# Altium integrated library ON Semi Schottky Diodes & Schottky Rectifiers.IntLib: 755 symbols (part 12 of 17)
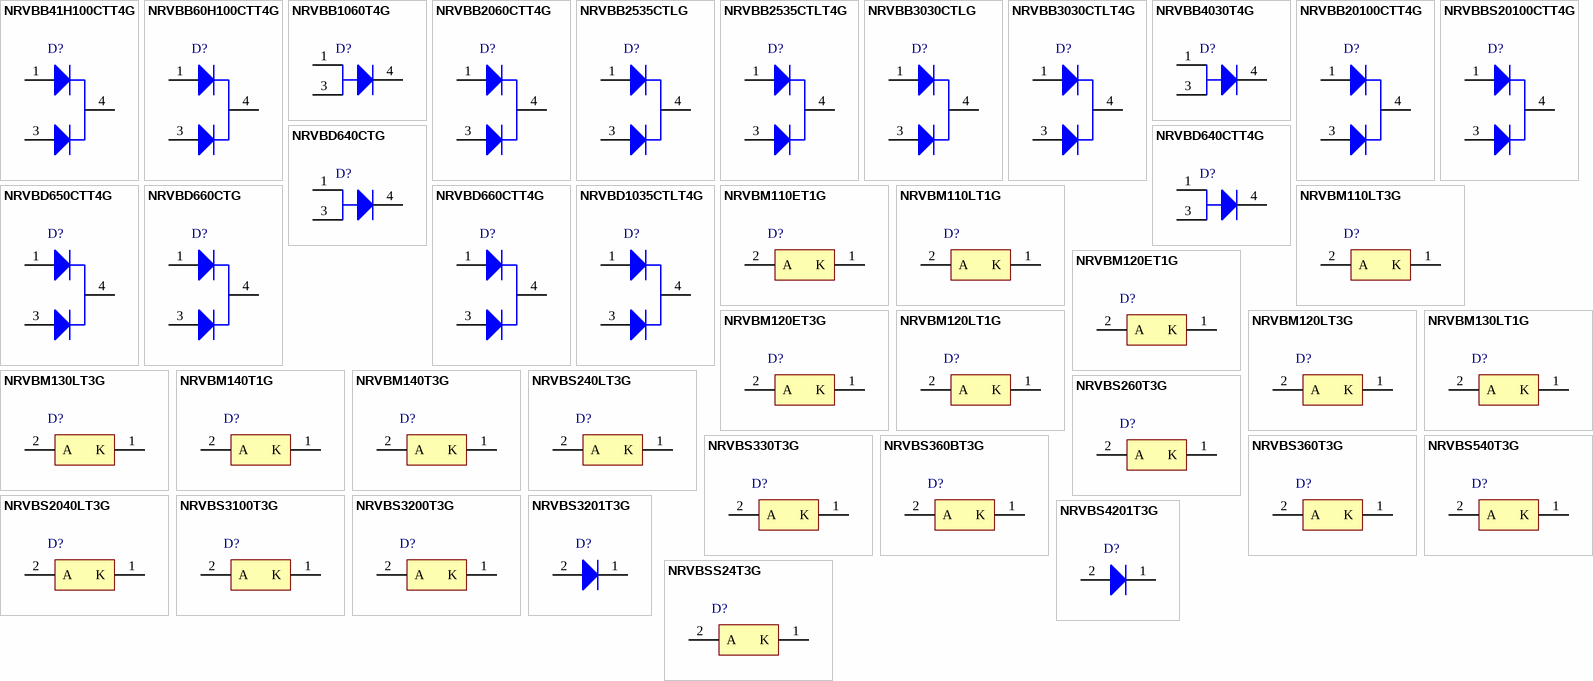
[diagram p30: symbols NRVBB41H100CTT4G to NRVBSS24T3G]

## NRVBB3030CTLG
designator D?
SWITCHMODE(TM) Power Rectifier, 3-Pin D2PAK, Pb-Free, Tube; Manufacturer: On Semiconductor; PartNumber: NRVBB3030CTLG; Configuration: Common Cathode; IFSM Max (A): 300; DatasheetVersion: Rev. 7; PackageVersion: Rev. K, 09/2008; PackageReference: D2PAK-3-418B-04; PackageDescription: 3-Pin Flange Mount, Body 9.145 x 9.97 mm, Pitch 2.54 mm; Supplier 1: Mouser; Supplier Part Number 1: N/A; Packing: Tube; RoHS: TRUE; Mounting Technology: Surface Mount; ComponentLink1Description: Manufacturer URL; ComponentLink1URL: http://www.onsemi.com/; ComponentLink2Description: Datasheet; ComponentLink2URL: http://www.onsemi.cn/pub_link/Collateral/MBRB3030CTL-D.PDF; ComponentLink3Description: Package Specification; ComponentLink3URL: http://www.onsemi.com/pub_link/Collateral/418B-04.PDF
footprint ONSC-D2PAK-3-418B-04_V (DPAK, 3-Leads, Body 9.97x9.145mm, Pitch 2.54mm)
pins: 1 A1, 3 A2, 4 K

## NRVBB3030CTLT4G
designator D?
SWITCHMODE(TM) Power Rectifier, 3-Pin D2PAK, Pb-Free, Tape and Reel; Manufacturer: On Semiconductor; PartNumber: NRVBB3030CTLT4G; Configuration: Common Cathode; IFSM Max (A): 300; DatasheetVersion: Rev. 7; PackageVersion: Rev. K, 09/2008; PackageReference: D2PAK-3-418B-04; PackageDescription: 3-Pin Flange Mount, Body 9.145 x 9.97 mm, Pitch 2.54 mm; Supplier 1: Mouser; Supplier Part Number 1: N/A; Packing: Tape and Reel; RoHS: TRUE; Mounting Technology: Surface Mount; ComponentLink1Description: Manufacturer URL; ComponentLink1URL: http://www.onsemi.com/; ComponentLink2Description: Datasheet; ComponentLink2URL: http://www.onsemi.cn/pub_link/Collateral/MBRB3030CTL-D.PDF; ComponentLink3Description: Package Specification; ComponentLink3URL: http://www.onsemi.com/pub_link/Collateral/418B-04.PDF
footprint ONSC-D2PAK-3-418B-04_V (DPAK, 3-Leads, Body 9.97x9.145mm, Pitch 2.54mm)
pins: 1 A1, 3 A2, 4 K

## NRVBB4030T4G
designator D?
SWITCHMODE(TM) Power Rectifier, 3-Pin D2PAK, Pb-Free, Tape and Reel; Manufacturer: On Semiconductor; PartNumber: NRVBB4030T4G; Configuration: Single; IFSM Max (A): 300; DatasheetVersion: Rev. 7; PackageVersion: Rev. K, 09/2008; PackageReference: D2PAK-3-418B-04; PackageDescription: 3-Pin Flange Mount, Body 9.145 x 9.97 mm, Pitch 2.54 mm; Supplier 1: Digi-Key; Supplier Part Number 1: NRVBB4030T4G-ND; Supplier 2: Mouser; Supplier Part Number 2: 863-NRVBB4030T4G; Packing: Tape and Reel; RoHS: TRUE; Mounting Technology: Surface Mount; ComponentLink1Description: Manufacturer URL; ComponentLink1URL: http://www.onsemi.com/; ComponentLink2Description: Datasheet; ComponentLink2URL: http://www.onsemi.cn/pub_link/Collateral/MBRB4030-D.PDF; ComponentLink3Description: Package Specification; ComponentLink3URL: http://www.onsemi.com/pub_link/Collateral/418B-04.PDF
footprint ONSC-D2PAK-3-418B-04_V (DPAK, 3-Leads, Body 9.97x9.145mm, Pitch 2.54mm)
pins: 1 A, 3 A, 4 K

## NRVBB20100CTT4G
designator D?
SWITCHMODE(TM) Power Rectifier, 3-Pin D2PAK, Pb-Free, Tape and Reel; Manufacturer: On Semiconductor; PartNumber: NRVBB20100CTT4G; Configuration: Common Cathode; IFSM Max (A): 150; DatasheetVersion: Rev. 10; PackageVersion: Rev. K, 09/2008; PackageReference: D2PAK-3-418B-04; PackageDescription: 3-Pin Flange Mount, Body 9.145 x 9.97 mm, Pitch 2.54 mm; Supplier 1: Digi-Key; Supplier Part Number 1: NRVBB20100CTT4G-ND; Supplier 2: Newark; Supplier Part Number 2: 76T6649; Supplier 3: Mouser; Supplier Part Number 3: 863-NRVBB20100CTT4G; Packing: Tape and Reel; RoHS: TRUE; Mounting Technology: Surface Mount; ComponentLink1Description: Manufacturer URL; ComponentLink1URL: http://www.onsemi.com/; ComponentLink2Description: Datasheet; ComponentLink2URL: http://www.onsemi.cn/pub_link/Collateral/MBRB20100CT-D.PDF; ComponentLink3Description: Package Specification; ComponentLink3URL: http://www.onsemi.com/pub_link/Collateral/418B-04.PDF
footprint ONSC-D2PAK-3-418B-04_V (DPAK, 3-Leads, Body 9.97x9.145mm, Pitch 2.54mm)
pins: 1 A1, 3 A2, 4 K

## NRVBBS20100CTT4G
designator D?
SWITCHMODE(TM) Power Rectifier, 3-Pin D2PAK, Pb-Free, Tape and Reel; Manufacturer: On Semiconductor; PartNumber: NRVBBS20100CTT4G; Configuration: Common Cathode; IFSM Max (A): 150; DatasheetVersion: Rev. 10; PackageVersion: Rev. K, 09/2008; PackageReference: D2PAK-3-418B-04; PackageDescription: 3-Pin Flange Mount, Body 9.145 x 9.97 mm, Pitch 2.54 mm; Supplier 1: Digi-Key; Supplier Part Number 1: NRVBBS20100CTT4G-ND; Supplier 2: Mouser; Supplier Part Number 2: 863-NRVBBS20100CTT4G; Packing: Tape and Reel; RoHS: TRUE; Mounting Technology: Surface Mount; ComponentLink1Description: Manufacturer URL; ComponentLink1URL: http://www.onsemi.com/; ComponentLink2Description: Datasheet; ComponentLink2URL: http://www.onsemi.cn/pub_link/Collateral/MBRB20100CT-D.PDF; ComponentLink3Description: Package Specification; ComponentLink3URL: http://www.onsemi.com/pub_link/Collateral/418B-04.PDF
footprint ONSC-D2PAK-3-418B-04_V (DPAK, 3-Leads, Body 9.97x9.145mm, Pitch 2.54mm)
pins: 1 A1, 3 A2, 4 K

## NRVBD640CTG
designator D?
SWITCHMODE(TM) Power Rectifier, 3-Pin DPAK, Pb-Free, Tube; Manufacturer: On Semiconductor; PartNumber: NRVBD640CTG; Configuration: Common Cathode; IFSM Max (A): 75; DatasheetVersion: Rev. 10; PackageVersion: Rev. E, 02/2014; PackageReference: DPAK-3-369C-01; PackageDescription: 3-Pin Flange Mount, Body 6.54 x 6.095 mm, Pitch 2.29 mm; Supplier 1: Digi-Key; Supplier Part Number 1: NRVBD640CTG-ND; Supplier 2: Newark; Supplier Part Number 2: 76T6655; Supplier 3: Mouser; Supplier Part Number 3: 863-NRVBD640CTG; Packing: Tube; RoHS: TRUE; Mounting Technology: Surface Mount; ComponentLink1Description: Manufacturer URL; ComponentLink1URL: http://www.onsemi.com/; ComponentLink2Description: Datasheet; ComponentLink2URL: http://www.onsemi.cn/pub_link/Collateral/MBRD620CT-D.PDF; ComponentLink3Description: Package Specification; ComponentLink3URL: http://www.onsemi.cn/pub_link/Collateral/369C.PDF
footprint ONSC-DPAK-3-369C-01_V (DPAK, 3-Leads, Body 6.54x6.095mm, Pitch 2.29mm)
pins: 1 A, 3 A, 4 K

## NRVBD640CTT4G
designator D?
SWITCHMODE(TM) Power Rectifier, 3-Pin DPAK, Pb-Free, Tape and Reel; Manufacturer: On Semiconductor; PartNumber: NRVBD640CTT4G; Configuration: Common Cathode; IFSM Max (A): 75; DatasheetVersion: Rev. 10; PackageVersion: Rev. E, 02/2014; PackageReference: DPAK-3-369C-01; PackageDescription: 3-Pin Flange Mount, Body 6.54 x 6.095 mm, Pitch 2.29 mm; Supplier 1: Digi-Key; Supplier Part Number 1: NRVBD640CTT4G-ND; Supplier 2: Mouser; Supplier Part Number 2: 863-NRVBD640CTT4G; Packing: Tape and Reel; RoHS: TRUE; Mounting Technology: Surface Mount; ComponentLink1Description: Manufacturer URL; ComponentLink1URL: http://www.onsemi.com/; ComponentLink2Description: Datasheet; ComponentLink2URL: http://www.onsemi.cn/pub_link/Collateral/MBRD620CT-D.PDF; ComponentLink3Description: Package Specification; ComponentLink3URL: http://www.onsemi.cn/pub_link/Collateral/369C.PDF
footprint ONSC-DPAK-3-369C-01_V (DPAK, 3-Leads, Body 6.54x6.095mm, Pitch 2.29mm)
pins: 1 A, 3 A, 4 K

## NRVBD650CTT4G
designator D?
SWITCHMODE(TM) Power Rectifier, 3-Pin DPAK, Pb-Free, Tape and Reel; Manufacturer: On Semiconductor; PartNumber: NRVBD650CTT4G; Configuration: Common Cathode; IFSM Max (A): 75; DatasheetVersion: Rev. 10; PackageVersion: Rev. E, 02/2014; PackageReference: DPAK-3-369C-01; PackageDescription: 3-Pin Flange Mount, Body 6.54 x 6.095 mm, Pitch 2.29 mm; Supplier 1: Digi-Key; Supplier Part Number 1: NRVBD650CTT4G-ND; Supplier 2: Newark; Supplier Part Number 2: 76T6657; Supplier 3: Mouser; Supplier Part Number 3: 863-NRVBD650CTT4G; Packing: Tape and Reel; RoHS: TRUE; Mounting Technology: Surface Mount; ComponentLink1Description: Manufacturer URL; ComponentLink1URL: http://www.onsemi.com/; ComponentLink2Description: Datasheet; ComponentLink2URL: http://www.onsemi.cn/pub_link/Collateral/MBRD620CT-D.PDF; ComponentLink3Description: Package Specification; ComponentLink3URL: http://www.onsemi.cn/pub_link/Collateral/369C.PDF
footprint ONSC-DPAK-3-369C-01_V (DPAK, 3-Leads, Body 6.54x6.095mm, Pitch 2.29mm)
pins: 1 A1, 3 A2, 4 K

## NRVBD660CTG
designator D?
SWITCHMODE(TM) Power Rectifier, 3-Pin DPAK, Pb-Free, Tube; Manufacturer: On Semiconductor; PartNumber: NRVBD660CTG; Configuration: Common Cathode; IFSM Max (A): 75; DatasheetVersion: Rev. 10; PackageVersion: Rev. E, 02/2014; PackageReference: DPAK-3-369C-01; PackageDescription: 3-Pin Flange Mount, Body 6.54 x 6.095 mm, Pitch 2.29 mm; Supplier 1: Digi-Key; Supplier Part Number 1: NRVBD660CTG-ND; Supplier 2: Newark; Supplier Part Number 2: 76T6658; Supplier 3: Mouser; Supplier Part Number 3: 863-NRVBD660CTG; Packing: Tube; RoHS: TRUE; Mounting Technology: Surface Mount; ComponentLink1Description: Manufacturer URL; ComponentLink1URL: http://www.onsemi.com/; ComponentLink2Description: Datasheet; ComponentLink2URL: http://www.onsemi.cn/pub_link/Collateral/MBRD620CT-D.PDF; ComponentLink3Description: Package Specification; ComponentLink3URL: http://www.onsemi.cn/pub_link/Collateral/369C.PDF
footprint ONSC-DPAK-3-369C-01_V (DPAK, 3-Leads, Body 6.54x6.095mm, Pitch 2.29mm)
pins: 1 A1, 3 A2, 4 K

## NRVBD660CTT4G
designator D?
SWITCHMODE(TM) Power Rectifier, 3-Pin DPAK, Pb-Free, Tape and Reel; Manufacturer: On Semiconductor; PartNumber: NRVBD660CTT4G; Configuration: Common Cathode; IFSM Max (A): 75; DatasheetVersion: Rev. 10; PackageVersion: Rev. E, 02/2014; PackageReference: DPAK-3-369C-01; PackageDescription: 3-Pin Flange Mount, Body 6.54 x 6.095 mm, Pitch 2.29 mm; Supplier 1: Digi-Key; Supplier Part Number 1: NRVBD660CTT4G-ND; Supplier 2: Newark; Supplier Part Number 2: 76T6659; Supplier 3: Mouser; Supplier Part Number 3: 863-NRVBD660CTT4G; Packing: Tape and Reel; RoHS: TRUE; Mounting Technology: Surface Mount; ComponentLink1Description: Manufacturer URL; ComponentLink1URL: http://www.onsemi.com/; ComponentLink2Description: Datasheet; ComponentLink2URL: http://www.onsemi.cn/pub_link/Collateral/MBRD620CT-D.PDF; ComponentLink3Description: Package Specification; ComponentLink3URL: http://www.onsemi.cn/pub_link/Collateral/369C.PDF
footprint ONSC-DPAK-3-369C-01_V (DPAK, 3-Leads, Body 6.54x6.095mm, Pitch 2.29mm)
pins: 1 A1, 3 A2, 4 K

## NRVBD1035CTLT4G
designator D?
SWITCHMODE(TM) Schottky Power Rectifier, 3-Pin DPAK, Pb-Free, Tape and Reel; Manufacturer: On Semiconductor; PartNumber: NRVBD1035CTLT4G; Configuration: Common Cathode; IFSM Max (A): 50; DatasheetVersion: Rev. 0; PackageVersion: Rev. E, 02/2014; PackageReference: DPAK-3-369C-01; PackageDescription: 3-Pin Flange Mount, Body 6.54 x 6.095 mm, Pitch 2.29 mm; Supplier 1: Digi-Key; Supplier Part Number 1: NRVBD1035CTLT4G-ND; Supplier 2: Mouser; Supplier Part Number 2: 863-NRVBD1035CTLT4G; Packing: Tape and Reel; RoHS: TRUE; Mounting Technology: Surface Mount; ComponentLink1Description: Manufacturer URL; ComponentLink1URL: http://www.onsemi.com/; ComponentLink2Description: Datasheet; ComponentLink2URL: http://www.onsemi.cn/pub_link/Collateral/NRVBD1035CTL-D.PDF; ComponentLink3Description: Package Specification; ComponentLink3URL: http://www.onsemi.cn/pub_link/Collateral/369C.PDF
footprint ONSC-DPAK-3-369C-01_V (DPAK, 3-Leads, Body 6.54x6.095mm, Pitch 2.29mm)
pins: 1 A1, 3 A2, 4 K

## NRVBM110ET1G
designator D?
Schottky Power Rectifier, 2-Pin Powermite, Pb-Free, Tape and Reel; Manufacturer: On Semiconductor; PartNumber: NRVBM110ET1G; Configuration: Single; IFSM Max (A): 50; DatasheetVersion: Rev. 3; PackageVersion: Rev. F, 05/2013; PackageReference: POWERMITE-2-457-04; PackageDescription: 2-Pin POWERMITE, Body 1.965 x 1.9 mm; Supplier 1: Newark; Supplier Part Number 1: 72W2301; Supplier 2: Mouser; Supplier Part Number 2: 863-NRVBM110ET1G; Packing: Tape and Reel; RoHS: TRUE; Mounting Technology: Surface Mount; ComponentLink1Description: Manufacturer URL; ComponentLink1URL: http://www.onsemi.com/; ComponentLink2Description: Datasheet; ComponentLink2URL: http://www.onsemi.cn/pub_link/Collateral/MBRM110E-D.PDF; ComponentLink3Description: Package Specification; ComponentLink3URL: http://www.onsemi.com/pub_link/Collateral/457-04.PDF
footprint ONSC-POWERMITE-2-457-04_D_V (POWERMITE, 2-Leads, Body 1.965x1.9mm)
pins: 1 K, 2 A

## NRVBM110LT1G
designator D?
Schottky Power Rectifier, 2-Pin Powermite, Pb-Free, Tape and Reel; Manufacturer: On Semiconductor; PartNumber: NRVBM110LT1G; Configuration: Single; IFSM Max (A): 50; DatasheetVersion: Rev. 2; PackageVersion: Rev. F, 05/2013; PackageReference: POWERMITE-2-457-04; PackageDescription: 2-Pin POWERMITE, Body 1.965 x 1.9 mm; Supplier 1: Newark; Supplier Part Number 1: 97W6347; Supplier 2: Mouser; Supplier Part Number 2: 863-NRVBM110LT1G; Packing: Tape and Reel; RoHS: TRUE; Mounting Technology: Surface Mount; ComponentLink1Description: Manufacturer URL; ComponentLink1URL: http://www.onsemi.com/; ComponentLink2Description: Datasheet; ComponentLink2URL: http://www.onsemi.cn/pub_link/Collateral/MBRM110L-D.PDF; ComponentLink3Description: Package Specification; ComponentLink3URL: http://www.onsemi.com/pub_link/Collateral/457-04.PDF
footprint ONSC-POWERMITE-2-457-04_D_V (POWERMITE, 2-Leads, Body 1.965x1.9mm)
pins: 1 K, 2 A

## NRVBM110LT3G
designator D?
Schottky Power Rectifier, 2-Pin Powermite, Pb-Free, Tape and Reel; Manufacturer: On Semiconductor; PartNumber: NRVBM110LT3G; Configuration: Single; IFSM Max (A): 50; DatasheetVersion: Rev. 2; PackageVersion: Rev. F, 05/2013; PackageReference: POWERMITE-2-457-04; PackageDescription: 2-Pin POWERMITE, Body 1.965 x 1.9 mm; Supplier 1: Newark; Supplier Part Number 1: 97W6348; Supplier 2: Mouser; Supplier Part Number 2: 863-NRVBM110LT3G; Packing: Tape and Reel; RoHS: TRUE; Mounting Technology: Surface Mount; ComponentLink1Description: Manufacturer URL; ComponentLink1URL: http://www.onsemi.com/; ComponentLink2Description: Datasheet; ComponentLink2URL: http://www.onsemi.cn/pub_link/Collateral/MBRM110L-D.PDF; ComponentLink3Description: Package Specification; ComponentLink3URL: http://www.onsemi.com/pub_link/Collateral/457-04.PDF
footprint ONSC-POWERMITE-2-457-04_D_V (POWERMITE, 2-Leads, Body 1.965x1.9mm)
pins: 1 K, 2 A

## NRVBM120ET1G
designator D?
Schottky Power Rectifier, 2-Pin Powermite, Pb-Free, Tape and Reel; Manufacturer: On Semiconductor; PartNumber: NRVBM120ET1G; Configuration: Single; IFSM Max (A): 50; DatasheetVersion: Rev. 3; PackageVersion: Rev. F, 05/2013; PackageReference: POWERMITE-2-457-04; PackageDescription: 2-Pin POWERMITE, Body 1.965 x 1.9 mm; Supplier 1: Mouser; Supplier Part Number 1: 863-NRVBM120ET1G; Packing: Tape and Reel; RoHS: TRUE; Mounting Technology: Surface Mount; ComponentLink1Description: Manufacturer URL; ComponentLink1URL: http://www.onsemi.com/; ComponentLink2Description: Datasheet; ComponentLink2URL: http://www.onsemi.cn/pub_link/Collateral/MBRM120E-D.PDF; ComponentLink3Description: Package Specification; ComponentLink3URL: http://www.onsemi.com/pub_link/Collateral/457-04.PDF
footprint ONSC-POWERMITE-2-457-04_D_V (POWERMITE, 2-Leads, Body 1.965x1.9mm)
pins: 1 K, 2 A

## NRVBM120ET3G
designator D?
Schottky Power Rectifier, 2-Pin Powermite, Pb-Free, Tape and Reel; Manufacturer: On Semiconductor; PartNumber: NRVBM120ET3G; Configuration: Single; IFSM Max (A): 50; DatasheetVersion: Rev. 3; PackageVersion: Rev. F, 05/2013; PackageReference: POWERMITE-2-457-04; PackageDescription: 2-Pin POWERMITE, Body 1.965 x 1.9 mm; Supplier 1: Mouser; Supplier Part Number 1: 863-NRVBM120ET3G; Packing: Tape and Reel; RoHS: TRUE; Mounting Technology: Surface Mount; ComponentLink1Description: Manufacturer URL; ComponentLink1URL: http://www.onsemi.com/; ComponentLink2Description: Datasheet; ComponentLink2URL: http://www.onsemi.cn/pub_link/Collateral/MBRM120E-D.PDF; ComponentLink3Description: Package Specification; ComponentLink3URL: http://www.onsemi.com/pub_link/Collateral/457-04.PDF
footprint ONSC-POWERMITE-2-457-04_D_V (POWERMITE, 2-Leads, Body 1.965x1.9mm)
pins: 1 K, 2 A

## NRVBM120LT1G
designator D?
Schottky Power Rectifier, 2-Pin Powermite, Pb-Free, Tape and Reel; Manufacturer: On Semiconductor; PartNumber: NRVBM120LT1G; Configuration: Single; IFSM Max (A): 50; DatasheetVersion: Rev. 7; PackageVersion: Rev. F, 05/2013; PackageReference: POWERMITE-2-457-04; PackageDescription: 2-Pin POWERMITE, Body 1.965 x 1.9 mm; Supplier 1: Mouser; Supplier Part Number 1: 863-NRVBM120LT1G; Packing: Tape and Reel; RoHS: TRUE; Mounting Technology: Surface Mount; ComponentLink1Description: Manufacturer URL; ComponentLink1URL: http://www.onsemi.com/; ComponentLink2Description: Datasheet; ComponentLink2URL: http://www.onsemi.cn/pub_link/Collateral/MBRM120L-D.PDF; ComponentLink3Description: Package Specification; ComponentLink3URL: http://www.onsemi.com/pub_link/Collateral/457-04.PDF
footprint ONSC-POWERMITE-2-457-04_D_V (POWERMITE, 2-Leads, Body 1.965x1.9mm)
pins: 1 K, 2 A

## NRVBM120LT3G
designator D?
Schottky Power Rectifier, 2-Pin Powermite, Pb-Free, Tape and Reel; Manufacturer: On Semiconductor; PartNumber: NRVBM120LT3G; Configuration: Single; IFSM Max (A): 50; DatasheetVersion: Rev. 7; PackageVersion: Rev. F, 05/2013; PackageReference: POWERMITE-2-457-04; PackageDescription: 2-Pin POWERMITE, Body 1.965 x 1.9 mm; Supplier 1: Newark; Supplier Part Number 1: 97W6350; Supplier 2: Mouser; Supplier Part Number 2: 863-NRVBM120LT3G; Packing: Tape and Reel; RoHS: TRUE; Mounting Technology: Surface Mount; ComponentLink1Description: Manufacturer URL; ComponentLink1URL: http://www.onsemi.com/; ComponentLink2Description: Datasheet; ComponentLink2URL: http://www.onsemi.cn/pub_link/Collateral/MBRM120L-D.PDF; ComponentLink3Description: Package Specification; ComponentLink3URL: http://www.onsemi.com/pub_link/Collateral/457-04.PDF
footprint ONSC-POWERMITE-2-457-04_D_V (POWERMITE, 2-Leads, Body 1.965x1.9mm)
pins: 1 K, 2 A

## NRVBM130LT1G
designator D?
Schottky Power Rectifier, 2-Pin Powermite, Pb-Free, Tape and Reel; Manufacturer: On Semiconductor; PartNumber: NRVBM130LT1G; Configuration: Single; IFSM Max (A): 50; DatasheetVersion: Rev. 5; PackageVersion: Rev. F, 05/2013; PackageReference: POWERMITE-2-457-04; PackageDescription: 2-Pin POWERMITE, Body 1.965 x 1.9 mm; Supplier 1: Newark; Supplier Part Number 1: 97W6351; Supplier 2: Mouser; Supplier Part Number 2: 863-NRVBM130LT1G; Packing: Tape and Reel; RoHS: TRUE; Mounting Technology: Surface Mount; ComponentLink1Description: Manufacturer URL; ComponentLink1URL: http://www.onsemi.com/; ComponentLink2Description: Datasheet; ComponentLink2URL: http://www.onsemi.cn/pub_link/Collateral/MBRM130L-D.PDF; ComponentLink3Description: Package Specification; ComponentLink3URL: http://www.onsemi.com/pub_link/Collateral/457-04.PDF
footprint ONSC-POWERMITE-2-457-04_D_V (POWERMITE, 2-Leads, Body 1.965x1.9mm)
pins: 1 K, 2 A

## NRVBM130LT3G
designator D?
Schottky Power Rectifier, 2-Pin Powermite, Pb-Free, Tape and Reel; Manufacturer: On Semiconductor; PartNumber: NRVBM130LT3G; Configuration: Single; IFSM Max (A): 50; DatasheetVersion: Rev. 5; PackageVersion: Rev. F, 05/2013; PackageReference: POWERMITE-2-457-04; PackageDescription: 2-Pin POWERMITE, Body 1.965 x 1.9 mm; Supplier 1: Newark; Supplier Part Number 1: 97W6352; Supplier 2: Mouser; Supplier Part Number 2: 863-NRVBM130LT3G; Packing: Tape and Reel; RoHS: TRUE; Mounting Technology: Surface Mount; ComponentLink1Description: Manufacturer URL; ComponentLink1URL: http://www.onsemi.com/; ComponentLink2Description: Datasheet; ComponentLink2URL: http://www.onsemi.cn/pub_link/Collateral/MBRM130L-D.PDF; ComponentLink3Description: Package Specification; ComponentLink3URL: http://www.onsemi.com/pub_link/Collateral/457-04.PDF
footprint ONSC-POWERMITE-2-457-04_D_V (POWERMITE, 2-Leads, Body 1.965x1.9mm)
pins: 1 K, 2 A

## NRVBM140T1G
designator D?
Schottky Power Rectifier, 2-Pin Powermite, Pb-Free, Tape and Reel; Manufacturer: On Semiconductor; PartNumber: NRVBM140T1G; Configuration: Single; IFSM Max (A): 50; DatasheetVersion: Rev. 4; PackageVersion: Rev. F, 05/2013; PackageReference: POWERMITE-2-457-04; PackageDescription: 2-Pin POWERMITE, Body 1.965 x 1.9 mm; Supplier 1: Digi-Key; Supplier Part Number 1: NRVBM140T1G-ND; Supplier 2: Mouser; Supplier Part Number 2: 863-NRVBM140T1G; Packing: Tape and Reel; RoHS: TRUE; Mounting Technology: Surface Mount; ComponentLink1Description: Manufacturer URL; ComponentLink1URL: http://www.onsemi.com/; ComponentLink2Description: Datasheet; ComponentLink2URL: http://www.onsemi.cn/pub/Collateral/MBRM140-D.PDF; ComponentLink3Description: Package Specification; ComponentLink3URL: http://www.onsemi.com/pub_link/Collateral/457-04.PDF
footprint ONSC-POWERMITE-2-457-04_D_V (POWERMITE, 2-Leads, Body 1.965x1.9mm)
pins: 1 K, 2 A

## NRVBM140T3G
designator D?
Schottky Power Rectifier, 2-Pin Powermite, Pb-Free, Tape and Reel; Manufacturer: On Semiconductor; PartNumber: NRVBM140T3G; Configuration: Single; IFSM Max (A): 50; DatasheetVersion: Rev. 4; PackageVersion: Rev. F, 05/2013; PackageReference: POWERMITE-2-457-04; PackageDescription: 2-Pin POWERMITE, Body 1.965 x 1.9 mm; Supplier 1: Digi-Key; Supplier Part Number 1: NRVBM140T3G-ND; Supplier 2: Mouser; Supplier Part Number 2: 863-NRVBM140T3G; Packing: Tape and Reel; RoHS: TRUE; Mounting Technology: Surface Mount; ComponentLink1Description: Manufacturer URL; ComponentLink1URL: http://www.onsemi.com/; ComponentLink2Description: Datasheet; ComponentLink2URL: http://www.onsemi.cn/pub/Collateral/MBRM140-D.PDF; ComponentLink3Description: Package Specification; ComponentLink3URL: http://www.onsemi.com/pub_link/Collateral/457-04.PDF
footprint ONSC-POWERMITE-2-457-04_D_V (POWERMITE, 2-Leads, Body 1.965x1.9mm)
pins: 1 K, 2 A

## NRVBS240LT3G
designator D?
Schottky Power Rectifier, 2-Pin SMB, Pb-Free, Tape and Reel; Manufacturer: On Semiconductor; PartNumber: NRVBS240LT3G; Configuration: Single; IFSM Max (A): 25; DatasheetVersion: Rev. 7; PackageVersion: Rev. H, 05/2011; PackageReference: SMB-2-403A-03_H; PackageDescription: 2-Pin Small Molded Package, J-Bend Lead, Body 4.33 x 3.625 mm; Supplier 1: Digi-Key; Supplier Part Number 1: NRVBS240LT3G-ND; Supplier 2: Mouser; Supplier Part Number 2: 863-NRVBS240LT3G; Packing: Tape and Reel; RoHS: TRUE; Mounting Technology: Surface Mount; ComponentLink1Description: Manufacturer URL; ComponentLink1URL: http://www.onsemi.com/; ComponentLink2Description: Datasheet; ComponentLink2URL: http://www.onsemi.cn/pub_link/Collateral/MBRS240LT3-D.PDF; ComponentLink3Description: Package Specification; ComponentLink3URL: http://www.onsemi.com/pub_link/Collateral/1SMB5913BT3-D.PDF
footprint ONSC-SMB-2-403A-03_H_V (Molded, 2-Leads, Body 4.6x3.95mm)
pins: 1 K, 2 A

## NRVBS260T3G
designator D?
Schottky Power Rectifier, 2-Pin SMB, Pb-Free, Tape and Reel; Manufacturer: On Semiconductor; PartNumber: NRVBS260T3G; Configuration: Single; IFSM Max (A): 60; DatasheetVersion: Rev. 7; PackageVersion: Rev. J, 07/2012; PackageReference: SMB-2-403A-03; PackageDescription: 2-Pin Small Molded Package, J-Bend Lead, Body 4.33 x 3.625 mm; Supplier 1: Newark; Supplier Part Number 1: 34M7848; Supplier 2: Mouser; Supplier Part Number 2: 863-NRVBS260T3G; Packing: Tape and Reel; RoHS: TRUE; Mounting Technology: Surface Mount; ComponentLink1Description: Manufacturer URL; ComponentLink1URL: http://www.onsemi.com/; ComponentLink2Description: Datasheet; ComponentLink2URL: http://www.onsemi.com/pub_link/Collateral/MBRS260T3-D.PDF; ComponentLink3Description: Package Specification; ComponentLink3URL: http://www.onsemi.com/pub_link/Collateral/403A-03.PDF
footprint ONSC-SMB-2-403A-03_V (Molded, 2-Leads, Body 4.6x3.95mm)
pins: 1 K, 2 A

## NRVBS330T3G
designator D?
Schottky Power Rectifier, 2-Pin SMC, Pb-Free, Tape and Reel; Manufacturer: On Semiconductor; PartNumber: NRVBS330T3G; Configuration: Single; IFSM Max (A): 80; DatasheetVersion: Rev. 11; PackageVersion: Rev. E, 08/2005; PackageReference: SMC-2-403-03; PackageDescription: 2-Pin Small Molded Package, J-Bend Lead, Body 5.845 x 6.855 mm; Supplier 1: Digi-Key; Supplier Part Number 1: NRVBS330T3G-ND; Supplier 2: Mouser; Supplier Part Number 2: 863-NRVBS330T3G; Packing: Tape and Reel; RoHS: TRUE; Mounting Technology: Surface Mount; ComponentLink1Description: Manufacturer URL; ComponentLink1URL: http://www.onsemi.com/; ComponentLink2Description: Datasheet; ComponentLink2URL: http://www.onsemi.cn/pub_link/Collateral/MBRS340T3-D.PDF; ComponentLink3Description: Package Specification; ComponentLink3URL: http://www.onsemi.com/pub_link/Collateral/403-03.PDF
footprint ONSC-SMC-2-403-03_V (Molded, 2-Leads, Body 6.86x5.84mm)
pins: 1 K, 2 A

## NRVBS360BT3G
designator D?
Schottky Power Rectifier, 2-Pin SMB, Pb-Free, Tape and Reel; Manufacturer: On Semiconductor; PartNumber: NRVBS360BT3G; Configuration: Single; IFSM Max (A): 125; DatasheetVersion: Rev. 8; PackageVersion: Rev. H, 05/2011; PackageReference: SMB-2-403A-03_H; PackageDescription: 2-Pin Small Molded Package, J-Bend Lead, Body 4.33 x 3.625 mm; Supplier 1: Newark; Supplier Part Number 1: 72W2304; Supplier 2: Mouser; Supplier Part Number 2: 863-NRVBS360BT3G; Packing: Tape and Reel; RoHS: TRUE; Mounting Technology: Surface Mount; ComponentLink1Description: Manufacturer URL; ComponentLink1URL: http://www.onsemi.com/; ComponentLink2Description: Datasheet; ComponentLink2URL: http://www.onsemi.cn/pub_link/Collateral/MBRS360T3-D.PDF; ComponentLink3Description: Package Specification; ComponentLink3URL: http://www.onsemi.com/pub_link/Collateral/1SMB5913BT3-D.PDF
footprint ONSC-SMB-2-403A-03_H_V (Molded, 2-Leads, Body 4.6x3.95mm)
pins: 1 K, 2 A

## NRVBS360T3G
designator D?
Schottky Power Rectifier, 2-Pin SMC, Pb-Free, Tape and Reel; Manufacturer: On Semiconductor; PartNumber: NRVBS360T3G; Configuration: Single; IFSM Max (A): 125; DatasheetVersion: Rev. 8; PackageVersion: Rev. E, 08/2005; PackageReference: SMC-2-403-03; PackageDescription: 2-Pin Small Molded Package, J-Bend Lead, Body 5.845 x 6.855 mm; Supplier 1: Digi-Key; Supplier Part Number 1: NRVBS360T3GOSTR-ND; Supplier 2: Digi-Key; Supplier Part Number 2: NRVBS360T3GOSCT-ND; Supplier 3: Digi-Key; Supplier Part Number 3: NRVBS360T3GOSDKR-ND; Supplier 4: Newark; Supplier Part Number 4: 76T6668; Supplier 5: Mouser; Supplier Part Number 5: 863-NRVBS360T3G; Packing: Tape and Reel; RoHS: TRUE; Mounting Technology: Surface Mount; ComponentLink1Description: Manufacturer URL; ComponentLink1URL: http://www.onsemi.com/; ComponentLink2Description: Datasheet; ComponentLink2URL: http://www.onsemi.cn/pub_link/Collateral/MBRS360T3-D.PDF; ComponentLink3Description: Package Specification; ComponentLink3URL: http://www.onsemi.com/pub_link/Collateral/403-03.PDF
footprint ONSC-SMC-2-403-03_V (Molded, 2-Leads, Body 6.86x5.84mm)
pins: 1 K, 2 A

## NRVBS540T3G
designator D?
Schottky Power Rectifier, 2-Pin SMC, Pb-Free, Tape and Reel; Manufacturer: On Semiconductor; PartNumber: NRVBS540T3G; Configuration: Single; IFSM Max (A): 190; DatasheetVersion: Rev. 8; PackageVersion: Rev. E, 08/2005; PackageReference: SMC-2-403-03; PackageDescription: 2-Pin Small Molded Package, J-Bend Lead, Body 5.845 x 6.855 mm; Supplier 1: Digi-Key; Supplier Part Number 1: NRVBS540T3G-ND; Supplier 2: Newark; Supplier Part Number 2: 76T6670; Supplier 3: Mouser; Supplier Part Number 3: 863-NRVBS540T3G; Packing: Tape and Reel; RoHS: TRUE; Mounting Technology: Surface Mount; ComponentLink1Description: Manufacturer URL; ComponentLink1URL: http://www.onsemi.com/; ComponentLink2Description: Datasheet; ComponentLink2URL: http://www.onsemi.cn/pub_link/Collateral/MBRS540T3-D.PDF; ComponentLink3Description: Package Specification; ComponentLink3URL: http://www.onsemi.com/pub_link/Collateral/403-03.PDF
footprint ONSC-SMC-2-403-03_V (Molded, 2-Leads, Body 6.86x5.84mm)
pins: 1 K, 2 A

## NRVBS2040LT3G
designator D?
Schottky Power Rectifier, 2-Pin SMB, Pb-Free, Tape and Reel; Manufacturer: On Semiconductor; PartNumber: NRVBS2040LT3G; Configuration: Single; IFSM Max (A): 70; DatasheetVersion: Rev. 4; PackageVersion: Rev. H, 05/2011; PackageReference: SMB-2-403A-03_H; PackageDescription: 2-Pin Small Molded Package, J-Bend Lead, Body 4.33 x 3.625 mm; Supplier 1: Digi-Key; Supplier Part Number 1: NRVBS2040LT3G-ND; Supplier 2: Mouser; Supplier Part Number 2: 863-NRVBS2040LT3G; Packing: Tape and Reel; RoHS: TRUE; Mounting Technology: Surface Mount; ComponentLink1Description: Manufacturer URL; ComponentLink1URL: http://www.onsemi.com/; ComponentLink2Description: Datasheet; ComponentLink2URL: http://www.onsemi.cn/pub_link/Collateral/MBRS2040LT3-D.PDF; ComponentLink3Description: Package Specification; ComponentLink3URL: http://www.onsemi.com/pub_link/Collateral/1SMB5913BT3-D.PDF
footprint ONSC-SMB-2-403A-03_H_V (Molded, 2-Leads, Body 4.6x3.95mm)
pins: 1 K, 2 A

## NRVBS3100T3G
designator D?
Schottky Power Rectifier, 2-Pin SMC, Pb-Free, Tape and Reel; Manufacturer: On Semiconductor; PartNumber: NRVBS3100T3G; Configuration: Single; IFSM Max (A): 130; DatasheetVersion: Rev. 4; PackageVersion: Rev. E, 08/2005; PackageReference: SMC-2-403-03; PackageDescription: 2-Pin Small Molded Package, J-Bend Lead, Body 5.845 x 6.855 mm; Supplier 1: Digi-Key; Supplier Part Number 1: NRVBS3100T3GOSTR-ND; Supplier 2: Digi-Key; Supplier Part Number 2: NRVBS3100T3GOSCT-ND; Supplier 3: Digi-Key; Supplier Part Number 3: NRVBS3100T3GOSDKR-ND; Supplier 4: Newark; Supplier Part Number 4: 76T6664; Supplier 5: Mouser; Supplier Part Number 5: 863-NRVBS3100T3G; Packing: Tape and Reel; RoHS: TRUE; Mounting Technology: Surface Mount; ComponentLink1Description: Manufacturer URL; ComponentLink1URL: http://www.onsemi.com/; ComponentLink2Description: Datasheet; ComponentLink2URL: http://www.onsemi.cn/pub_link/Collateral/MBRS3100T3-D.PDF; ComponentLink3Description: Package Specification; ComponentLink3URL: http://www.onsemi.com/pub_link/Collateral/403-03.PDF
footprint ONSC-SMC-2-403-03_V (Molded, 2-Leads, Body 6.86x5.84mm)
pins: 1 K, 2 A

## NRVBS3200T3G
designator D?
Schottky Power Rectifier, 2-Pin SMB, Pb-Free, Tape and Reel; Manufacturer: On Semiconductor; PartNumber: NRVBS3200T3G; Configuration: Single; IFSM Max (A): 100; DatasheetVersion: Rev. 6; PackageVersion: Rev. J, 07/2012; PackageReference: SMB-2-403A-03; PackageDescription: 2-Pin Small Molded Package, J-Bend Lead, Body 4.33 x 3.625 mm; Supplier 1: Digi-Key; Supplier Part Number 1: NRVBS3200T3G-ND; Supplier 2: Newark; Supplier Part Number 2: 76T6665; Supplier 3: Mouser; Supplier Part Number 3: 863-NRVBS3200T3G; Packing: Tape and Reel; RoHS: TRUE; Mounting Technology: Surface Mount; ComponentLink1Description: Manufacturer URL; ComponentLink1URL: http://www.onsemi.com/; ComponentLink2Description: Datasheet; ComponentLink2URL: http://www.onsemi.cn/pub_link/Collateral/MBRS3200T3-D.PDF; ComponentLink3Description: Package Specification; ComponentLink3URL: http://www.onsemi.com/pub_link/Collateral/403A-03.PDF
footprint ONSC-SMB-2-403A-03_V (Molded, 2-Leads, Body 4.6x3.95mm)
pins: 1 K, 2 A

## NRVBS3201T3G
designator D?
200 V, 3 A Schottky Fast Soft-Recovery Power Rectifier, 2-Pin SMC, Pb-Free, Tape and Reel; Manufacturer: On Semiconductor; PartNumber: NRVBS3201T3G; Configuration: Single; IFSM Max (A): 100; trr Max (ns): 35; DatasheetVersion: Rev. 3; PackageVersion: Rev. E, 08/2005; PackageReference: SMC-2-403-03; PackageDescription: 2-Pin Small Molded Package, J-Bend Lead, Body 5.845 x 6.855 mm; Supplier 1: Digi-Key; Supplier Part Number 1: NRVBS3201T3G-ND; Supplier 2: Mouser; Supplier Part Number 2: 863-NRVBS3201T3G; Packing: Tape and Reel; RoHS: TRUE; Mounting Technology: Surface Mount; ComponentLink1Description: Manufacturer URL; ComponentLink1URL: http://www.onsemi.com/; ComponentLink2Description: Datasheet; ComponentLink2URL: http://www.onsemi.cn/pub_link/Collateral/MBRS3201T3-D.PDF; ComponentLink3Description: Package Specification; ComponentLink3URL: http://www.onsemi.com/pub_link/Collateral/403-03.PDF
footprint ONSC-SMC-2-403-03_V (Molded, 2-Leads, Body 6.86x5.84mm)
pins: 1 K, 2 A

## NRVBS4201T3G
designator D?
200 V, 4 A Schottky Fast Soft-Recovery Power Rectifier, 2-Pin SMC, Pb-Free, Tape and Reel; Manufacturer: On Semiconductor; PartNumber: NRVBS4201T3G; Configuration: Single; IFSM Max (A): 100; trr Max (ns): 35; DatasheetVersion: Rev. 5; PackageVersion: Rev. E, 08/2005; PackageReference: SMC-2-403-03; PackageDescription: 2-Pin Small Molded Package, J-Bend Lead, Body 5.845 x 6.855 mm; Supplier 1: Digi-Key; Supplier Part Number 1: NRVBS4201T3G-ND; Supplier 2: Mouser; Supplier Part Number 2: 863-NRVBS4201T3G; Packing: Tape and Reel; RoHS: TRUE; Mounting Technology: Surface Mount; ComponentLink1Description: Manufacturer URL; ComponentLink1URL: http://www.onsemi.com/; ComponentLink2Description: Datasheet; ComponentLink2URL: http://www.onsemi.cn/pub_link/Collateral/MBRS4201T3-D.PDF; ComponentLink3Description: Package Specification; ComponentLink3URL: http://www.onsemi.com/pub_link/Collateral/403-03.PDF
footprint ONSC-SMC-2-403-03_V (Molded, 2-Leads, Body 6.86x5.84mm)
pins: 1 K, 2 A

## NRVBSS24T3G
designator D?
Schottky Power Rectifier, 2-Pin SMB, Pb-Free, Tape and Reel; Manufacturer: On Semiconductor; PartNumber: NRVBSS24T3G; Configuration: Single; IFSM Max (A): 75; DatasheetVersion: Rev. 4; PackageVersion: Rev. J, 07/2012; PackageReference: SMB-2-403A-03; PackageDescription: 2-Pin Small Molded Package, J-Bend Lead, Body 4.33 x 3.625 mm; Supplier 1: Newark; Supplier Part Number 1: 11X3678; Supplier 2: Mouser; Supplier Part Number 2: 863-NRVBSS24T3G; Packing: Tape and Reel; RoHS: TRUE; Mounting Technology: Surface Mount; ComponentLink1Description: Manufacturer URL; ComponentLink1URL: http://www.onsemi.com/; ComponentLink2Description: Datasheet; ComponentLink2URL: http://www.onsemi.cn/pub_link/Collateral/SS24-D.PDF; ComponentLink3Description: Package Specification; ComponentLink3URL: http://www.onsemi.com/pub_link/Collateral/403A-03.PDF
footprint ONSC-SMB-2-403A-03_V (Molded, 2-Leads, Body 4.6x3.95mm)
pins: 1 K, 2 A

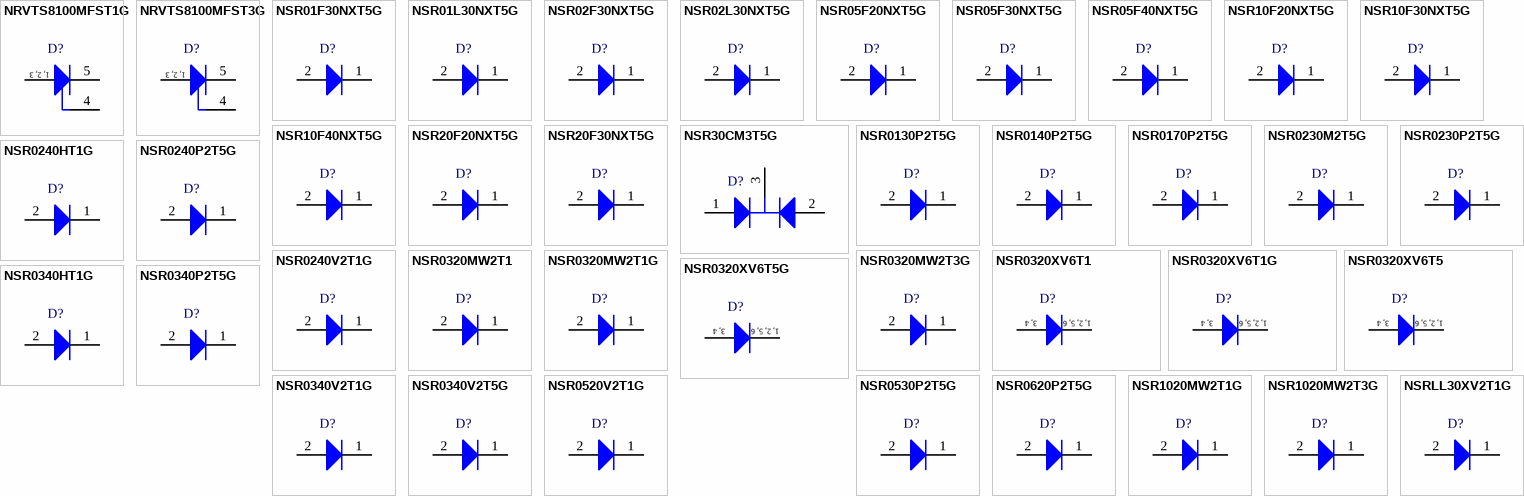
[diagram p14: symbols NRVTS8100MFST1G to NSRLL30XV2T1G]

## NRVTS8100MFST1G
designator D?
Very Low Forward Voltage Trench-Based Schottky Rectifier, 5-Pin DFN, Pb-Free, Tape and Reel; Manufacturer: On Semiconductor; PartNumber: NRVTS8100MFST1G; Note: 0; IFSM Max (A): 150; DatasheetVersion: Rev. 0; PackageVersion: Rev. G, 04/2012; PackageReference: DFN-5-488AA_G; PackageDescription: 5-Pin Small Outline No-Lead, Body 4.9 x 5.8 mm, Pitch 1.27 mm; Packing: Tape and Reel; RoHS: TRUE; Mounting Technology: Surface Mount; ComponentLink1Description: Manufacturer URL; ComponentLink1URL: http://www.onsemi.com/; ComponentLink2Description: Datasheet; ComponentLink2URL: http://www.onsemi.cn/pub_link/Collateral/NTS8100MFS-D.PDF; ComponentLink3Description: Package Specification; ComponentLink3URL: http://www.onsemi.com/pub_link/Collateral/MBR5H100MFS-D.PDF
footprint ONSC-DFN-5-488AA_G_V (DFN, 5-Leads, Body 4.9x5.8mm)
pins: 1 A, 2 A, 3 A, 4 NC, 5 K
text: 1, 2, 3

## NRVTS8100MFST3G
designator D?
Very Low Forward Voltage Trench-Based Schottky Rectifier, 5-Pin DFN, Pb-Free, Tape and Reel; Manufacturer: On Semiconductor; PartNumber: NRVTS8100MFST3G; Note: 0; IFSM Max (A): 150; DatasheetVersion: Rev. 0; PackageVersion: Rev. G, 04/2012; PackageReference: DFN-5-488AA_G; PackageDescription: 5-Pin Small Outline No-Lead, Body 4.9 x 5.8 mm, Pitch 1.27 mm; Packing: Tape and Reel; RoHS: TRUE; Mounting Technology: Surface Mount; ComponentLink1Description: Manufacturer URL; ComponentLink1URL: http://www.onsemi.com/; ComponentLink2Description: Datasheet; ComponentLink2URL: http://www.onsemi.cn/pub_link/Collateral/NTS8100MFS-D.PDF; ComponentLink3Description: Package Specification; ComponentLink3URL: http://www.onsemi.com/pub_link/Collateral/MBR5H100MFS-D.PDF
footprint ONSC-DFN-5-488AA_G_V (DFN, 5-Leads, Body 4.9x5.8mm)
pins: 1 A, 2 A, 3 A, 4 NC, 5 K
text: 1, 2, 3

## NSR01F30NXT5G
designator D?
Schottky Barrier Diode, 2-Pin DSN, Pb-Free, Tape and Reel; Manufacturer: On Semiconductor; PartNumber: NSR01F30NXT5G; Configuration: Single; IFSM Max (A): 4; DatasheetVersion: Rev. D; PackageVersion: Rev. A, 11/2011; PackageReference: DSN-2-152AA; PackageDescription: 2-Pin Micro Molded Package, Body 0.3 x 0.6 mm, Pitch 0.4 mm; Supplier 1: Digi-Key; Supplier Part Number 1: NSR01F30NXT5GOSTR-ND; Supplier 2: Digi-Key; Supplier Part Number 2: NSR01F30NXT5GOSCT-ND; Supplier 3: Digi-Key; Supplier Part Number 3: NSR01F30NXT5GOSDKR-ND; Supplier 4: Newark; Supplier Part Number 4: 15R4687; Supplier 5: Mouser; Supplier Part Number 5: 863-NSR01F30NXT5G; Packing: Tape and Reel; RoHS: TRUE; Mounting Technology: Surface Mount; ComponentLink1Description: Manufacturer URL; ComponentLink1URL: http://www.onsemi.com/; ComponentLink2Description: Datasheet; ComponentLink2URL: http://www.onsemi.cn/pub_link/Collateral/NSR01F30-D.PDF; ComponentLink3Description: Package Specification; ComponentLink3URL: http://www.onsemi.com/pub_link/Collateral/152AA.PDF
footprint ONSC-DSN-2-152AA_V (DSN, 2-Leads, Body 0.6x0.3mm, Pitch 0.47mm)
pins: 1 K, 2 A

## NSR01L30NXT5G
designator D?
Schottky Barrier Diode, 2-Pin DSN, Pb-Free, Tape and Reel; Manufacturer: On Semiconductor; PartNumber: NSR01L30NXT5G; Configuration: Single; IFSM Max (A): 4; DatasheetVersion: Rev. 2; PackageVersion: Rev. O, 05/2009; PackageReference: DSN-2-152AA_O; PackageDescription: 2-Pin Micro Molded Package, Body 0.3 x 0.6 mm, Pitch 0.4 mm; Supplier 1: Digi-Key; Supplier Part Number 1: NSR01L30NXT5GOSTR-ND; Supplier 2: Digi-Key; Supplier Part Number 2: NSR01L30NXT5GOSCT-ND; Supplier 3: Digi-Key; Supplier Part Number 3: NSR01L30NXT5GOSDKR-ND; Supplier 4: Farnell; Supplier Part Number 4: 2317399; Supplier 5: Newark; Supplier Part Number 5: 95W3519; Supplier 6: Newark; Supplier Part Number 6: 15R4688; Supplier 7: Mouser; Supplier Part Number 7: 863-NSR01L30NXT5G; Packing: Tape and Reel; RoHS: TRUE; Mounting Technology: Surface Mount; ComponentLink1Description: Manufacturer URL; ComponentLink1URL: http://www.onsemi.com/; ComponentLink2Description: Datasheet; ComponentLink2URL: http://www.onsemi.cn/pub_link/Collateral/NSR01L30-D.PDF; ComponentLink3Description: Package Specification; ComponentLink3URL: http://www.onsemi.cn/pub_link/Collateral/NSR01F30-D.PDF
footprint ONSC-DSN-2-152AA_O_V (DSN, 2-Leads, Body 0.6x0.3mm, Pitch 0.47mm)
pins: 1 K, 2 A

## NSR02F30NXT5G
designator D?
Schottky Barrier Diode, 2-Pin DSN, Pb-Free, Tape and Reel; Manufacturer: On Semiconductor; PartNumber: NSR02F30NXT5G; Configuration: Single; IFSM Max (A): 4; DatasheetVersion: Rev. 2; PackageVersion: Rev. O, 05/2009; PackageReference: DSN-2-152AA_O; PackageDescription: 2-Pin Micro Molded Package, Body 0.3 x 0.6 mm, Pitch 0.4 mm; Supplier 1: Digi-Key; Supplier Part Number 1: NSR02F30NXT5G-ND; Supplier 2: Mouser; Supplier Part Number 2: 863-NSR02F30NXT5G; Packing: Tape and Reel; RoHS: TRUE; Mounting Technology: Surface Mount; ComponentLink1Description: Manufacturer URL; ComponentLink1URL: http://www.onsemi.com/; ComponentLink2Description: Datasheet; ComponentLink2URL: http://www.onsemi.cn/pub_link/Collateral/NSR02F30-D.PDF; ComponentLink3Description: Package Specification; ComponentLink3URL: http://www.onsemi.cn/pub_link/Collateral/NSR01F30-D.PDF
footprint ONSC-DSN-2-152AA_O_V (DSN, 2-Leads, Body 0.6x0.3mm, Pitch 0.47mm)
pins: 1 K, 2 A

## NSR02L30NXT5G
designator D?
Schottky Barrier Diode, 2-Pin DSN, Pb-Free, Tape and Reel; Manufacturer: On Semiconductor; PartNumber: NSR02L30NXT5G; Configuration: Single; IFSM Max (A): 4; DatasheetVersion: Rev. 2; PackageVersion: Rev. O, 05/2009; PackageReference: DSN-2-152AA_O; PackageDescription: 2-Pin Micro Molded Package, Body 0.3 x 0.6 mm, Pitch 0.4 mm; Supplier 1: Digi-Key; Supplier Part Number 1: NSR02L30NXT5G-ND; Supplier 2: Newark; Supplier Part Number 2: 15R4690; Supplier 3: Mouser; Supplier Part Number 3: 863-NSR02L30NXT5G; Packing: Tape and Reel; RoHS: TRUE; Mounting Technology: Surface Mount; ComponentLink1Description: Manufacturer URL; ComponentLink1URL: http://www.onsemi.com/; ComponentLink2Description: Datasheet; ComponentLink2URL: http://www.onsemi.cn/pub_link/Collateral/NSR02F30-D.PDF; ComponentLink3Description: Package Specification; ComponentLink3URL: http://www.onsemi.cn/pub_link/Collateral/NSR01F30-D.PDF
footprint ONSC-DSN-2-152AA_O_V (DSN, 2-Leads, Body 0.6x0.3mm, Pitch 0.47mm)
pins: 1 K, 2 A

## NSR05F20NXT5G
designator D?
Schottky Barrier Diode, 2-Pin DSN, Pb-Free, Tape and Reel; Manufacturer: On Semiconductor; PartNumber: NSR05F20NXT5G; Configuration: Single; IFSM Max (A): 10; DatasheetVersion: Rev. 2; PackageVersion: Rev. C, 01/2011; PackageReference: DSN-2-152AC-01; PackageDescription: 2-Pin Micro Molded Package, Body 1 x 0.6 mm; Supplier 1: Digi-Key; Supplier Part Number 1: NSR05F20NXT5GOSTR-ND; Supplier 2: Digi-Key; Supplier Part Number 2: NSR05F20NXT5GOSCT-ND; Supplier 3: Digi-Key; Supplier Part Number 3: NSR05F20NXT5GOSDKR-ND; Supplier 4: Newark; Supplier Part Number 4: 79R3533; Supplier 5: Mouser; Supplier Part Number 5: 863-NSR05F20NXT5G; Packing: Tape and Reel; RoHS: TRUE; Mounting Technology: Surface Mount; ComponentLink1Description: Manufacturer URL; ComponentLink1URL: http://www.onsemi.com/; ComponentLink2Description: Datasheet; ComponentLink2URL: http://www.onsemi.cn/pub_link/Collateral/NSR05F20.PDF; ComponentLink3Description: Package Specification; ComponentLink3URL: http://www.onsemi.cn/pub_link/Collateral/152AC.PDF
footprint ONSC-DSN-2-152AC-01_V (DSN, 2-Leads, Body 1x0.6mm)
pins: 1 K, 2 A

## NSR05F30NXT5G
designator D?
Schottky Barrier Diode, 2-Pin DSN, Pb-Free, Tape and Reel; Manufacturer: On Semiconductor; PartNumber: NSR05F30NXT5G; Configuration: Single; IFSM Max (A): 10; DatasheetVersion: Rev. 3; PackageVersion: Rev. C, 01/2011; PackageReference: DSN-2-152AC-01; PackageDescription: 2-Pin Micro Molded Package, Body 1 x 0.6 mm; Supplier 1: Digi-Key; Supplier Part Number 1: NSR05F30NXT5GOSTR-ND; Supplier 2: Digi-Key; Supplier Part Number 2: NSR05F30NXT5GOSCT-ND; Supplier 3: Digi-Key; Supplier Part Number 3: NSR05F30NXT5GOSDKR-ND; Supplier 4: Farnell; Supplier Part Number 4: 2317598; Supplier 5: Mouser; Supplier Part Number 5: 863-NSR05F30NXT5G; Packing: Tape and Reel; RoHS: TRUE; Mounting Technology: Surface Mount; ComponentLink1Description: Manufacturer URL; ComponentLink1URL: http://www.onsemi.com/; ComponentLink2Description: Datasheet; ComponentLink2URL: http://www.onsemi.cn/pub_link/Collateral/NSR05F30.PDF; ComponentLink3Description: Package Specification; ComponentLink3URL: http://www.onsemi.cn/pub_link/Collateral/152AC.PDF
footprint ONSC-DSN-2-152AC-01_V (DSN, 2-Leads, Body 1x0.6mm)
pins: 1 K, 2 A

## NSR05F40NXT5G
designator D?
Schottky Barrier Diode, 2-Pin DSN, Pb-Free, Tape and Reel; Manufacturer: On Semiconductor; PartNumber: NSR05F40NXT5G; Configuration: Single; IFSM Max (A): 10; DatasheetVersion: Rev. 3; PackageVersion: Rev. C, 01/2011; PackageReference: DSN-2-152AC-01; PackageDescription: 2-Pin Micro Molded Package, Body 1 x 0.6 mm; Supplier 1: Digi-Key; Supplier Part Number 1: NSR05F40NXT5GOSTR-ND; Supplier 2: Digi-Key; Supplier Part Number 2: NSR05F40NXT5GOSCT-ND; Supplier 3: Digi-Key; Supplier Part Number 3: NSR05F40NXT5GOSDKR-ND; Supplier 4: Farnell; Supplier Part Number 4: 2317565; Supplier 5: Newark; Supplier Part Number 5: 85W3176; Supplier 6: Newark; Supplier Part Number 6: 79R3535; Supplier 7: Mouser; Supplier Part Number 7: 863-NSR05F40NXT5G; Packing: Tape and Reel; RoHS: TRUE; Mounting Technology: Surface Mount; ComponentLink1Description: Manufacturer URL; ComponentLink1URL: http://www.onsemi.com/; ComponentLink2Description: Datasheet; ComponentLink2URL: http://www.onsemi.cn/pub_link/Collateral/NSR05F40.PDF; ComponentLink3Description: Package Specification; ComponentLink3URL: http://www.onsemi.cn/pub_link/Collateral/152AC.PDF
footprint ONSC-DSN-2-152AC-01_V (DSN, 2-Leads, Body 1x0.6mm)
pins: 1 K, 2 A

## NSR10F20NXT5G
designator D?
Schottky Barrier Diode, 2-Pin DSN, Pb-Free, Tape and Reel; Manufacturer: On Semiconductor; PartNumber: NSR10F20NXT5G; Configuration: Single; IFSM Max (A): 18; DatasheetVersion: Rev. 2; PackageVersion: Rev. C, 01/2011; PackageReference: DSN-2-152AC-01; PackageDescription: 2-Pin Micro Molded Package, Body 1 x 0.6 mm; Supplier 1: Digi-Key; Supplier Part Number 1: NSR10F20NXT5GOSTR-ND; Supplier 2: Digi-Key; Supplier Part Number 2: NSR10F20NXT5GOSCT-ND; Supplier 3: Digi-Key; Supplier Part Number 3: NSR10F20NXT5GOSDKR-ND; Supplier 4: Mouser; Supplier Part Number 4: 863-NSR10F20NXT5G; Packing: Tape and Reel; RoHS: TRUE; Mounting Technology: Surface Mount; ComponentLink1Description: Manufacturer URL; ComponentLink1URL: http://www.onsemi.com/; ComponentLink2Description: Datasheet; ComponentLink2URL: http://www.onsemi.com/pub_link/Collateral/NSR10F20-D.PDF; ComponentLink3Description: Package Specification; ComponentLink3URL: http://www.onsemi.cn/pub_link/Collateral/152AC.PDF
footprint ONSC-DSN-2-152AC-01_V (DSN, 2-Leads, Body 1x0.6mm)
pins: 1 K, 2 A

## NSR10F30NXT5G
designator D?
Schottky Barrier Diode, 2-Pin DSN, Pb-Free, Tape and Reel; Manufacturer: On Semiconductor; PartNumber: NSR10F30NXT5G; Configuration: Single; IFSM Max (A): 18; DatasheetVersion: Rev. 2; PackageVersion: Rev. C, 01/2011; PackageReference: DSN-2-152AC-01; PackageDescription: 2-Pin Micro Molded Package, Body 1 x 0.6 mm; Supplier 1: Digi-Key; Supplier Part Number 1: NSR10F30NXT5GOSTR-ND; Supplier 2: Digi-Key; Supplier Part Number 2: NSR10F30NXT5GOSCT-ND; Supplier 3: Digi-Key; Supplier Part Number 3: NSR10F30NXT5GOSDKR-ND; Supplier 4: Mouser; Supplier Part Number 4: 863-NSR10F30NXT5G; Packing: Tape and Reel; RoHS: TRUE; Mounting Technology: Surface Mount; ComponentLink1Description: Manufacturer URL; ComponentLink1URL: http://www.onsemi.com/; ComponentLink2Description: Datasheet; ComponentLink2URL: http://www.onsemi.cn/pub_link/Collateral/NSR10F30.PDF; ComponentLink3Description: Package Specification; ComponentLink3URL: http://www.onsemi.cn/pub_link/Collateral/152AC.PDF
footprint ONSC-DSN-2-152AC-01_V (DSN, 2-Leads, Body 1x0.6mm)
pins: 1 K, 2 A

## NSR10F40NXT5G
designator D?
Schottky Barrier Diode, 2-Pin DSN, Pb-Free, Tape and Reel; Manufacturer: On Semiconductor; PartNumber: NSR10F40NXT5G; Configuration: Single; IFSM Max (A): 18; DatasheetVersion: Rev. 3; PackageVersion: Rev. C, 01/2011; PackageReference: DSN-2-152AC-01; PackageDescription: 2-Pin Micro Molded Package, Body 1 x 0.6 mm; Supplier 1: Digi-Key; Supplier Part Number 1: NSR10F40NXT5GOSTR-ND; Supplier 2: Digi-Key; Supplier Part Number 2: NSR10F40NXT5GOSCT-ND; Supplier 3: Digi-Key; Supplier Part Number 3: NSR10F40NXT5GOSDKR-ND; Supplier 4: Farnell; Supplier Part Number 4: 2317571; Supplier 5: Mouser; Supplier Part Number 5: 863-NSR10F40NXT5G; Packing: Tape and Reel; RoHS: TRUE; Mounting Technology: Surface Mount; ComponentLink1Description: Manufacturer URL; ComponentLink1URL: http://www.onsemi.com/; ComponentLink2Description: Datasheet; ComponentLink2URL: http://www.onsemi.com/pub_link/Collateral/NSR10F40-D.PDF; ComponentLink3Description: Package Specification; ComponentLink3URL: http://www.onsemi.cn/pub_link/Collateral/152AC.PDF
footprint ONSC-DSN-2-152AC-01_V (DSN, 2-Leads, Body 1x0.6mm)
pins: 1 K, 2 A

## NSR20F20NXT5G
designator D?
Schottky Barrier Diode, 2-Pin DSN, Pb-Free, Tape and Reel; Manufacturer: On Semiconductor; PartNumber: NSR20F20NXT5G; Configuration: Single; IFSM Max (A): 28; DatasheetVersion: Rev. 2; PackageVersion: Rev. B, 01/2011; PackageReference: DSN-2-512AB-01; PackageDescription: 2-Pin Micro Molded Package, Body 1.6 x 0.8 mm; Supplier 1: Digi-Key; Supplier Part Number 1: NSR20F20NXT5GOSTR-ND; Supplier 2: Digi-Key; Supplier Part Number 2: NSR20F20NXT5GOSCT-ND; Supplier 3: Digi-Key; Supplier Part Number 3: NSR20F20NXT5GOSDKR-ND; Supplier 4: Newark; Supplier Part Number 4: 79R3538; Supplier 5: Mouser; Supplier Part Number 5: 863-NSR20F20NXT5G; Packing: Tape and Reel; RoHS: TRUE; Mounting Technology: Surface Mount; ComponentLink1Description: Manufacturer URL; ComponentLink1URL: http://www.onsemi.com/; ComponentLink2Description: Datasheet; ComponentLink2URL: http://www.onsemi.com/pub_link/Collateral/NSR20F20-D.PDF; ComponentLink3Description: Package Specification; ComponentLink3URL: http://www.onsemi.cn/pub_link/Collateral/152AB.PDF
footprint ONSC-DSN-2-512AB-01_V (DSN, 2-Leads, Body 1.6x0.8mm)
pins: 1 K, 2 A

## NSR20F30NXT5G
designator D?
Schottky Barrier Diode, 2-Pin DSN, Pb-Free, Tape and Reel; Manufacturer: On Semiconductor; PartNumber: NSR20F30NXT5G; Configuration: Single; IFSM Max (A): 28; DatasheetVersion: Rev. 3; PackageVersion: Rev. B, 01/2011; PackageReference: DSN-2-512AB-01; PackageDescription: 2-Pin Micro Molded Package, Body 1.6 x 0.8 mm; Supplier 1: Digi-Key; Supplier Part Number 1: NSR20F30NXT5GOSTR-ND; Supplier 2: Digi-Key; Supplier Part Number 2: NSR20F30NXT5GOSCT-ND; Supplier 3: Digi-Key; Supplier Part Number 3: NSR20F30NXT5GOSDKR-ND; Supplier 4: Farnell; Supplier Part Number 4: 2317558; Supplier 5: Newark; Supplier Part Number 5: 85W3178; Supplier 6: Newark; Supplier Part Number 6: 71R6711; Supplier 7: Mouser; Supplier Part Number 7: 863-NSR20F30NXT5G; Packing: Tape and Reel; RoHS: TRUE; Mounting Technology: Surface Mount; ComponentLink1Description: Manufacturer URL; ComponentLink1URL: http://www.onsemi.com/; ComponentLink2Description: Datasheet; ComponentLink2URL: http://www.onsemi.com/pub_link/Collateral/NSR20F30-D.PDF; ComponentLink3Description: Package Specification; ComponentLink3URL: http://www.onsemi.cn/pub_link/Collateral/152AB.PDF
footprint ONSC-DSN-2-512AB-01_V (DSN, 2-Leads, Body 1.6x0.8mm)
pins: 1 K, 2 A